# Altium schematic symbol library 7807.SchLib: 1 symbol
Pins are listed as number, name and electrical type; pins without a type are passive.

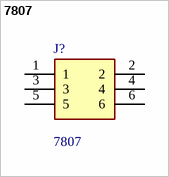
[diagram p0: symbol 7807]

## 7807
designator J?
KEYSTONE - 7807 - TERMINAL, PCB SCREW, 2.57MM; Manufacturer_Name: Keystone Electronics; Geometry.Height: 11.76mm; Mouser Part Number: 534-7807; Mouser Price/Stock: https://www.mouser.co.uk/ProductDetail/Keystone-Electronics/7807?qs=%2F%252BPMR94VuMaEJokheHBVWg%3D%3D; Manufacturer_Part_Number: 7807; Datasheet Link: http://www.keyelco.com/product-pdf.cfm?p=1119
footprint 7807
pins: 1, 2, 3, 4, 5, 6